# Altium footprint library PcbLib1.PcbLib: 2 footprints
Each footprint in its own frame and in the unit in brackets; x right, y up, seen from the top. Pads: shape width x height; smd on the part's side, far side on the other; paste and mask are expansions set on the pad; w line width, h text height; cw(c..) or ccw(c..) is an arc to the next point about the centre after c.
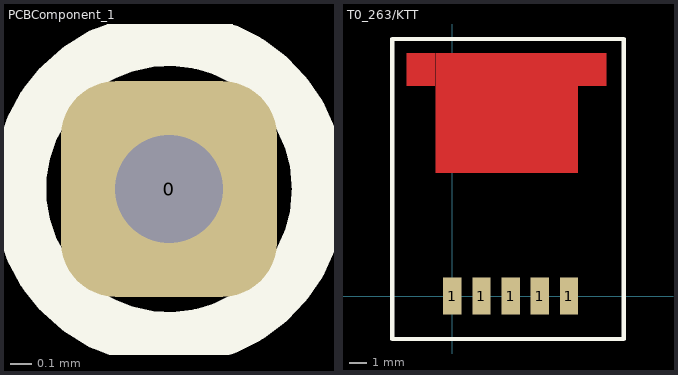
[diagram p0: the footprints below, top view; thin cyan lines are the x and y axes]

## PCBComponent_1 [mil]
pads (1):
  rrect50% 40x40 hole 20: 0(2066.93,5610.24)
Top Overlay:
  circle w10: c2066.93,5610.24 r27.84

## T0_263/KTT [mil]
pads (5):
  rect 42x85 smd: 1(0,0) 1(67,0) 1(134,0) 1(201,0) 1(268,0)
Top Layer:
  rectangle: 289,483 354.33,558
  rectangle: -104.7,483 -39.37,558
  rectangle: -39,283 289,558
Top Overlay:
  lines w10: -137.8,-98.43 -137.8,590.55 393.7,590.55 393.7,-98.43 -137.8,-98.43